# Altium integrated library TLV3691IDCKR.IntLib: 1 symbol
Pins are listed as number, name and electrical type; pins without a type are passive.

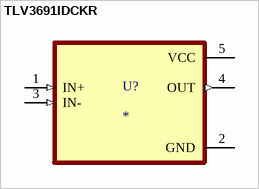
[diagram p0: symbol TLV3691IDCKR]

## TLV3691IDCKR
designator U?
Nanopower, small-size, single comparator; MF: Texas Instruments; MP: TLV3691IDCKR; SnapEDA_Link: https://www.snapeda.com/parts/TLV3691IDCKR/Texas+Instruments/view-part/?ref=snap; Package: SC70-5 Texas Instruments; Value: *; Check_prices: https://www.snapeda.com/parts/TLV3691IDCKR/Texas+Instruments/view-part/?ref=eda
footprint SOT65P210X110-5N
pins: 1 IN+ (in), 2 GND (power), 3 IN- (in), 4 OUT (out), 5 VCC (power)